# EAGLE library part M74HC125B1R (library ST Microelectronics)
QUAD BUS BUFFER
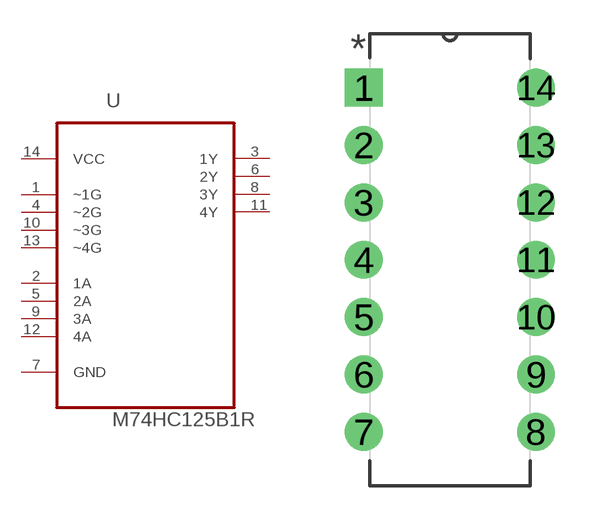
[diagram p215: symbol with the pads of DIP254P762X510-14; footprint DIP254P762X510-14]

Designator prefix U

## M74HC125B1R (MPN: M74HC125B1R; OC_FARNELL: 1094283; OC_NEWARK: 89K0855; PACKAGE: PDIP-14; SUPPLIER: STMICROELECTRONICS)  [DIP254P762X510-14]
1  ~1G  in
2  1A  in
3  1Y  out
4  ~2G  in
5  2A  in
6  2Y  out
7  GND  pas
8  3Y  out
9  3A  in
10  ~3G  in
11  4Y  out
12  4A  in
13  ~4G  in
14  VCC  pwr

## Footprint DIP254P762X510-14 (pad centres in mm)
drill 1.118 square: 1 -7.62,15.24
drill 1.118: 2 -7.62,12.7; 3 -7.62,10.16; 4 -7.62,7.62; 5 -7.62,5.08; 6 -7.62,2.54; 7 -7.62,0; 8 0,0; 9 0,2.54; 10 0,5.08; 11 0,7.62; 12 0,10.16; 13 0,12.7; 14 0,15.24